# EAGLE library part ROBOTDYN_MICRO_SD_CARD (library angrypig7_Library)
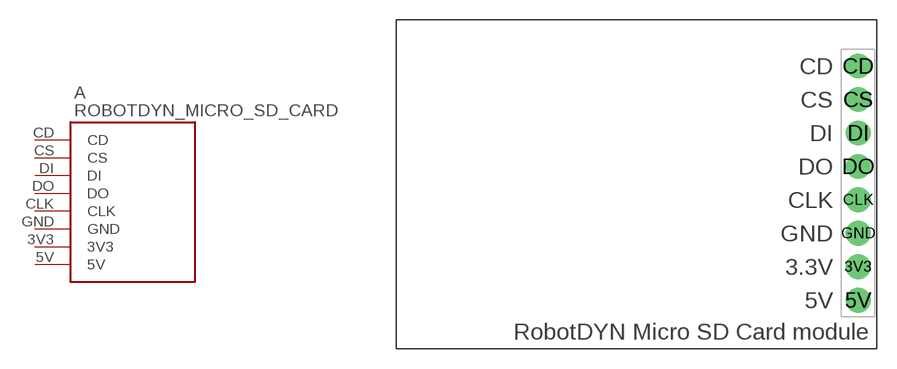
[diagram p4: symbol with the pads of ROBOTDYN_MICRO_SD_CARD; footprint ROBOTDYN_MICRO_SD_CARD]

Designator prefix A

## ROBOTDYN_MICRO_SD_CARD  [ROBOTDYN_MICRO_SD_CARD]
3V3  3V3
5V  5V
CD  CD
CLK  CLK
CS  CS
DI  DI
DO  DO
GND  GND

## Footprint ROBOTDYN_MICRO_SD_CARD (pad centres in mm)
drill 1.016 pad 1.88: 3V3 17.732,-6.382; 5V 17.732,-8.922; CD 17.732,8.858; CLK 17.732,-1.302; CS 17.732,6.318; DI 17.732,3.778; DO 17.732,1.238; GND 17.732,-3.842